# EAGLE library part 74*4515 (library 74ttl-din)
1 of 16 inverting DECODER/DEMULTIPLEXER
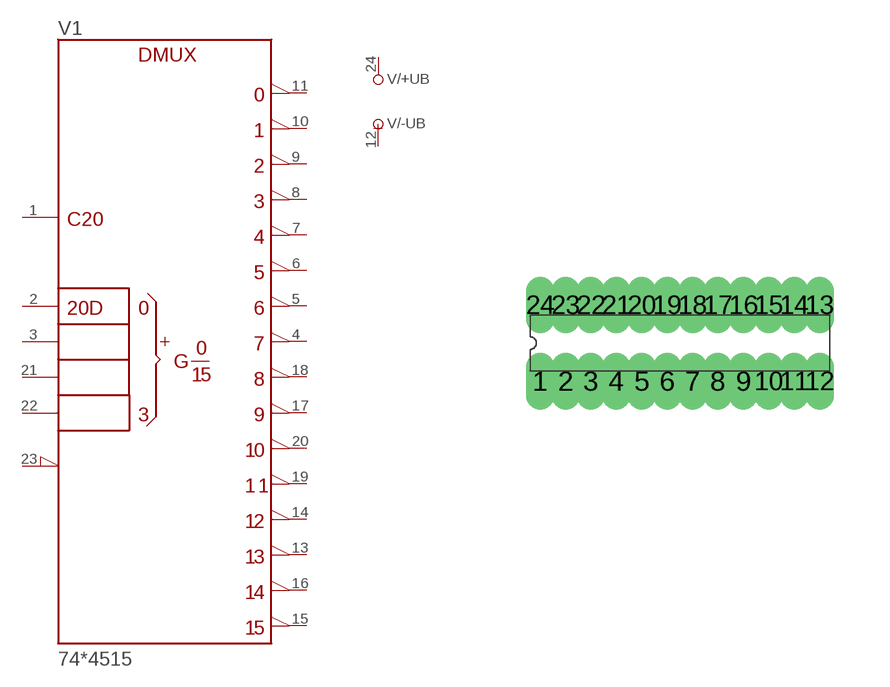
[diagram p151: symbol with the pads of DIL24-3; footprint DIL24-3]

Designator prefix V; gates /+UB=+UB /-UB=-UB 1=4515

## 744515N  [DIL24-3]
1  1:LE  in
2  1:A  in
3  1:B  in
4  1:Y7  out
5  1:Y6  out
6  1:Y5  out
7  1:Y4  out
8  1:Y3  out
9  1:Y2  out
10  1:Y1  out
11  1:Y0  out
12  /-UB:-UB  pwr
13  1:Y13  out
14  1:Y12  out
15  1:Y15  out
16  1:Y14  out
17  1:Y9  out
18  1:Y8  out
19  1:Y11  out
20  1:Y10  out
21  1:C  in
22  1:D  in
23  1:!G  in
24  /+UB:+UB  pwr

## Footprint DIL24-3 (pad centres in mm)
Dual In Line Package 0.3 inch
drill 0.203 long: 1 -3.493,-0.953; 2 -2.857,-0.953; 3 -2.223,-0.953; 4 -1.587,-0.953; 5 -0.953,-0.953; 6 -0.318,-0.953; 7 0.318,-0.953; 8 0.953,-0.953; 9 1.587,-0.953; 10 2.223,-0.953; 11 2.857,-0.953; 12 3.493,-0.953; 13 3.493,0.953; 14 2.857,0.953; 15 2.223,0.953; 16 1.587,0.953; 17 0.953,0.953; 18 0.318,0.953; 19 -0.318,0.953; 20 -0.953,0.953; 21 -1.587,0.953; 22 -2.223,0.953; 23 -2.857,0.953; 24 -3.493,0.953